# Altium footprint library Maxim Sensors.PcbLib: 239 footprints (part 15 of 15)
Each footprint in its own frame and in the unit in brackets; x right, y up, seen from the top. Pads: shape width x height; smd on the part's side, far side on the other; paste and mask are expansions set on the pad; w line width, h text height; cw(c..) or ccw(c..) is an arc to the next point about the centre after c.
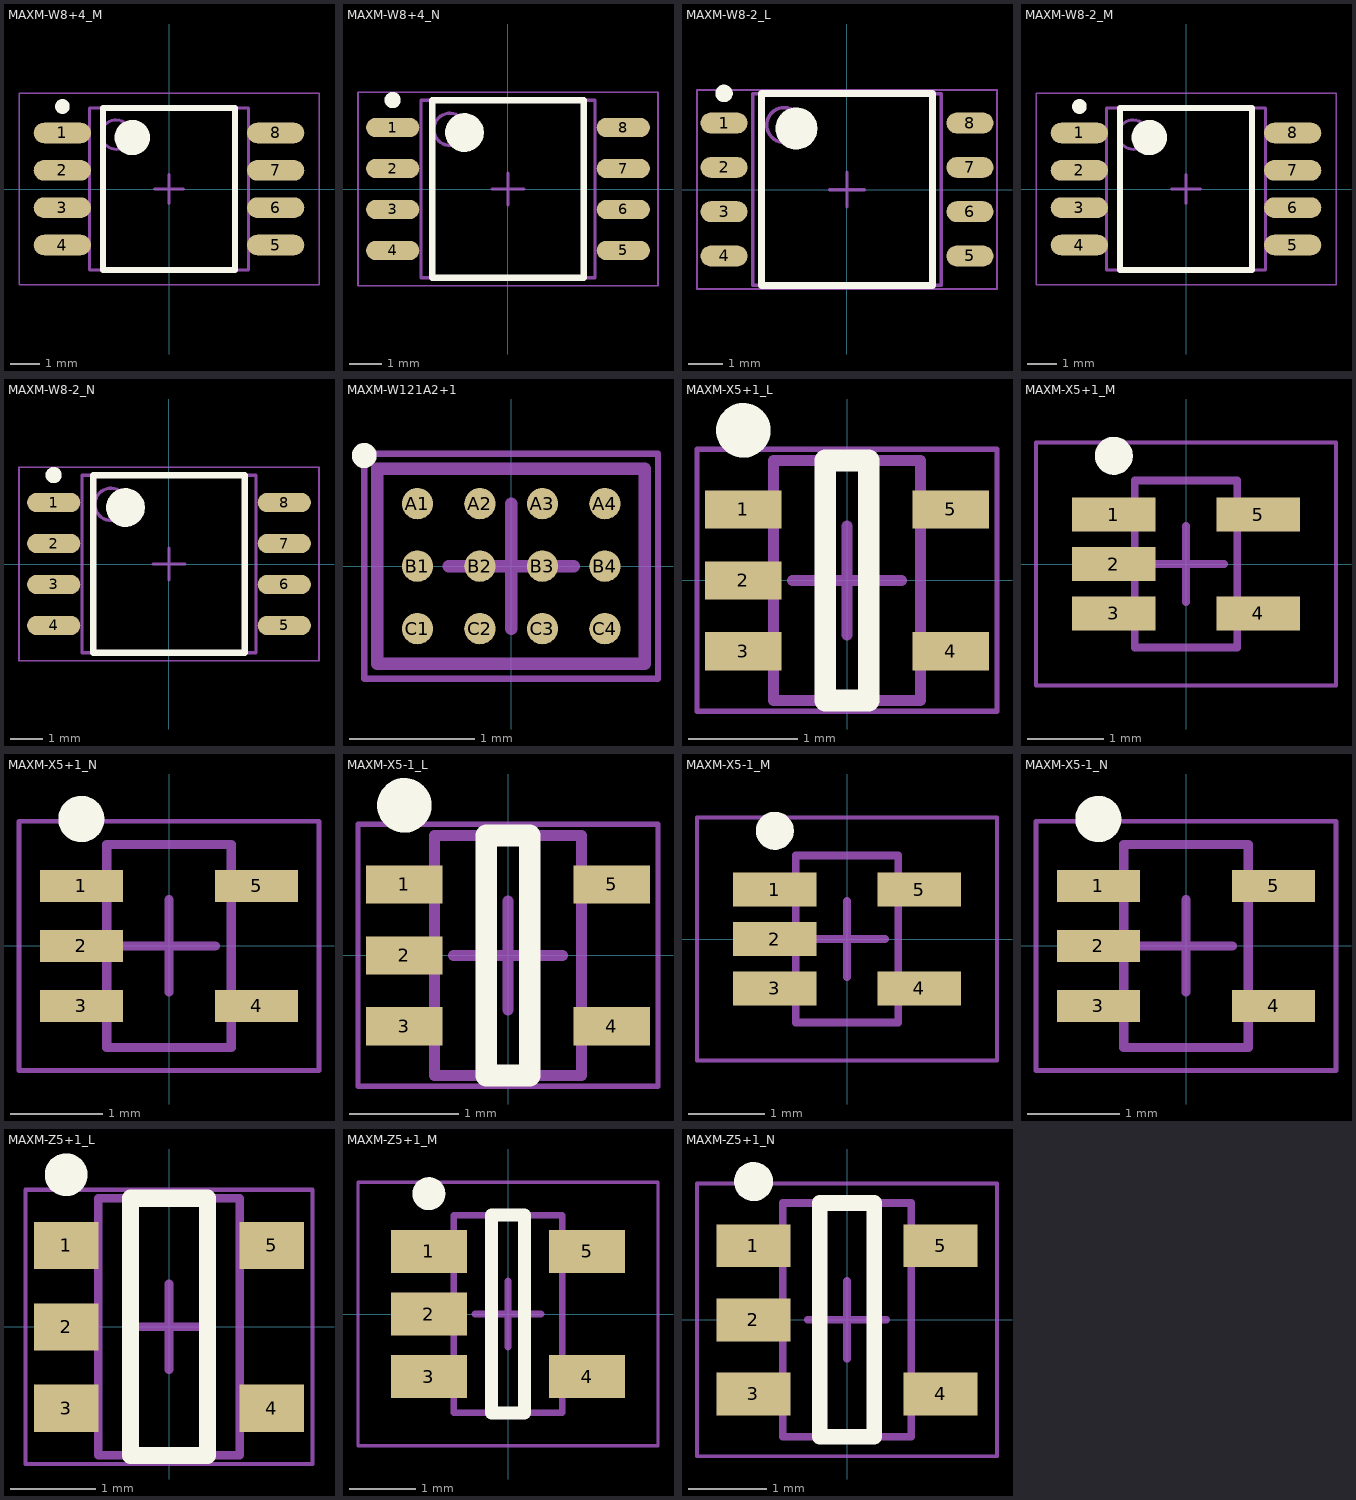
[diagram p14: the footprints below, top view; thin cyan lines are the x and y axes]

## MAXM-W8+4_M [mm] "SOIC, 8-Leads, Body 5.31x5.285mm, Pitch 1.27mm, IPC Low Density"
height 2.13
pads (8):
  oval 1.95x0.7 smd: 1(-3.625,1.905) 2(-3.625,0.635) 3(-3.625,-0.635) 4(-3.625,-1.905) 5(3.625,-1.905) 6(3.625,-0.635) 7(3.625,0.635) 8(3.625,1.905)
Top Overlay:
  circle w0.25: c-3.625,2.805 r0.125
  circle w0.6: c-1.25,1.75 r0.3
  lines w0.2: -2.25,-2.75 -2.25,2.75 2.25,2.75 2.25,-2.75 -2.25,-2.75
Mechanical 13:
  circle w0.1: c-1.8,1.85 r0.5
  lines w0.1: -2.7,-2.75 -2.7,2.75 2.7,2.75 2.7,-2.75 -2.7,-2.75
Mechanical 15:
  lines w0.05: -5.1,-3.25 -5.1,3.25 5.1,3.25 5.1,-3.25 -5.1,-3.25
  lines w0.1: -0.5,0 0.5,0 ; 0,-0.5 0,0.5
3D body: height 2.13, standoff 0.05, extent -2.7,-2.75 2.7,2.75

## MAXM-W8+4_N [mm] "SOIC, 8-Leads, Body 5.31x5.285mm, Pitch 1.27mm, IPC Medium Density"
height 2.13
pads (8):
  oval 1.65x0.6 smd: 1(-3.575,1.905) 2(-3.575,0.635) 3(-3.575,-0.635) 4(-3.575,-1.905) 5(3.575,-1.905) 6(3.575,-0.635) 7(3.575,0.635) 8(3.575,1.905)
Top Overlay:
  circle w0.25: c-3.575,2.755 r0.125
  circle w0.6: c-1.35,1.75 r0.3
  lines w0.2: -2.35,-2.75 -2.35,2.75 2.35,2.75 2.35,-2.75 -2.35,-2.75
Mechanical 13:
  circle w0.1: c-1.8,1.85 r0.5
  lines w0.1: -2.7,-2.75 -2.7,2.75 2.7,2.75 2.7,-2.75 -2.7,-2.75
Mechanical 15:
  lines w0.05: -4.65,-3 -4.65,3 4.65,3 4.65,-3 -4.65,-3
  lines w0.1: -0.5,0 0.5,0 ; 0,-0.5 0,0.5
3D body: height 2.13, standoff 0.05, extent -2.7,-2.75 2.7,2.75

## MAXM-W8-2_L [mm] "SOIC, 8-Leads, Body 5.31x5.285mm, Pitch 1.27mm, IPC High Density"
height 2.13
pads (8):
  oval 1.35x0.6 smd: 1(-3.525,1.905) 2(-3.525,0.635) 3(-3.525,-0.635) 4(-3.525,-1.905) 5(3.525,-1.905) 6(3.525,-0.635) 7(3.525,0.635) 8(3.525,1.905)
Top Overlay:
  circle w0.25: c-3.525,2.755 r0.125
  circle w0.6: c-1.45,1.75 r0.3
  lines w0.2: -2.45,-2.75 -2.45,2.75 2.45,2.75 2.45,-2.75 -2.45,-2.75
Mechanical 13:
  circle w0.1: c-1.8,1.85 r0.5
  lines w0.1: -2.7,-2.75 -2.7,2.75 2.7,2.75 2.7,-2.75 -2.7,-2.75
Mechanical 15:
  lines w0.05: -4.3,-2.85 -4.3,2.85 4.3,2.85 4.3,-2.85 -4.3,-2.85
  lines w0.1: -0.5,0 0.5,0 ; 0,-0.5 0,0.5
3D body: height 2.13, standoff 0.05, extent -2.7,-2.75 2.7,2.75

## MAXM-W8-2_M [mm] "SOIC, 8-Leads, Body 5.31x5.285mm, Pitch 1.27mm, IPC Low Density"
height 2.13
pads (8):
  oval 1.95x0.7 smd: 1(-3.625,1.905) 2(-3.625,0.635) 3(-3.625,-0.635) 4(-3.625,-1.905) 5(3.625,-1.905) 6(3.625,-0.635) 7(3.625,0.635) 8(3.625,1.905)
Top Overlay:
  circle w0.25: c-3.625,2.805 r0.125
  circle w0.6: c-1.25,1.75 r0.3
  lines w0.2: -2.25,-2.75 -2.25,2.75 2.25,2.75 2.25,-2.75 -2.25,-2.75
Mechanical 13:
  circle w0.1: c-1.8,1.85 r0.5
  lines w0.1: -2.7,-2.75 -2.7,2.75 2.7,2.75 2.7,-2.75 -2.7,-2.75
Mechanical 15:
  lines w0.05: -5.1,-3.25 -5.1,3.25 5.1,3.25 5.1,-3.25 -5.1,-3.25
  lines w0.1: -0.5,0 0.5,0 ; 0,-0.5 0,0.5
3D body: height 2.13, standoff 0.05, extent -2.7,-2.75 2.7,2.75

## MAXM-W8-2_N [mm] "SOIC, 8-Leads, Body 5.31x5.285mm, Pitch 1.27mm, IPC Medium Density"
height 2.13
pads (8):
  oval 1.65x0.6 smd: 1(-3.575,1.905) 2(-3.575,0.635) 3(-3.575,-0.635) 4(-3.575,-1.905) 5(3.575,-1.905) 6(3.575,-0.635) 7(3.575,0.635) 8(3.575,1.905)
Top Overlay:
  circle w0.25: c-3.575,2.755 r0.125
  circle w0.6: c-1.35,1.75 r0.3
  lines w0.2: -2.35,-2.75 -2.35,2.75 2.35,2.75 2.35,-2.75 -2.35,-2.75
Mechanical 13:
  circle w0.1: c-1.8,1.85 r0.5
  lines w0.1: -2.7,-2.75 -2.7,2.75 2.7,2.75 2.7,-2.75 -2.7,-2.75
Mechanical 15:
  lines w0.05: -4.65,-3 -4.65,3 4.65,3 4.65,-3 -4.65,-3
  lines w0.1: -0.5,0 0.5,0 ; 0,-0.5 0,0.5
3D body: height 2.13, standoff 0.05, extent -2.7,-2.75 2.7,2.75

## MAXM-W121A2+1 [mm] "BGA, 12-Balls, Body 2.135x1.555mm, Pitch 0.5mm"
height 0.69
pads (12):
  round 0.25 smd: A1(-0.75,0.5) A2(-0.25,0.5) A3(0.25,0.5) A4(0.75,0.5) B1(-0.75,0) B2(-0.25,0) B3(0.25,0) B4(0.75,0) C1(-0.75,-0.5) C2(-0.25,-0.5) C3(0.25,-0.5) C4(0.75,-0.5)
Top Overlay:
  circle w0.1: c-1.175,0.885 r0.05
Mechanical 13:
  lines w0.1: -1.07,-0.78 -1.07,0.78 1.07,0.78 1.07,-0.78 -1.07,-0.78
Mechanical 15:
  lines w0.05: -1.175,-0.9 -1.175,0.9 1.175,0.9 1.175,-0.9 -1.175,-0.9
  lines w0.1: -0.5,0 0.5,0 ; 0,-0.5 0,0.5
3D body: height 0.69, standoff 0.21, extent -1.07,-0.78 1.07,0.78

## MAXM-X5+1_L [mm] "SOT23, 5-Leads, Body 2x1.25mm, Pitch 0.65mm, IPC High Density"
height 1.1
pads (5):
  rect 0.7x0.35 smd: 1(-0.95,0.65) 2(-0.95,0) 3(-0.95,-0.65) 4(0.95,-0.65) 5(0.95,0.65)
Top Overlay:
  circle w0.25: c-0.95,1.375 r0.125
  lines w0.2: -0.2,-1.1 -0.2,1.1 0.2,1.1 0.2,-1.1 -0.2,-1.1
Mechanical 13:
  lines w0.1: -0.675,-1.1 0.675,-1.1 0.675,1.1 -0.675,1.1 -0.675,-1.1
Mechanical 15:
  lines w0.05: -1.375,-1.2 1.375,-1.2 1.375,1.2 -1.375,1.2 -1.375,-1.2
  lines w0.1: -0.5,0 0.5,0 ; 0,-0.5 0,0.5
3D body: height 1.1, standoff 0, extent -0.675,-1.1 0.675,1.1

## MAXM-X5+1_M [mm] "SOT23, 5-Leads, Body 2x1.25mm, Pitch 0.65mm, IPC Low Density"
height 1.1
pads (5):
  rect 1.1x0.45 smd: 1(-0.95,0.65) 2(-0.95,0) 3(-0.95,-0.65) 4(0.95,-0.65) 5(0.95,0.65)
Top Overlay:
  circle w0.25: c-0.95,1.425 r0.125
Mechanical 13:
  lines w0.1: -0.675,-1.1 -0.675,1.1 0.675,1.1 0.675,-1.1 -0.675,-1.1
Mechanical 15:
  lines w0.05: -1.975,-1.6 -1.975,1.6 1.975,1.6 1.975,-1.6 -1.975,-1.6
  lines w0.1: -0.5,0 0.5,0 ; 0,-0.5 0,0.5
3D body: height 1.1, standoff 0, extent -0.675,-1.1 0.675,1.1

## MAXM-X5+1_N [mm] "SOT23, 5-Leads, Body 2x1.25mm, Pitch 0.65mm, IPC Medium Density"
height 1.1
pads (5):
  rect 0.9x0.35 smd: 1(-0.95,0.65) 2(-0.95,0) 3(-0.95,-0.65) 4(0.95,-0.65) 5(0.95,0.65)
Top Overlay:
  circle w0.25: c-0.95,1.375 r0.125
Mechanical 13:
  lines w0.1: -0.675,-1.1 -0.675,1.1 0.675,1.1 0.675,-1.1 -0.675,-1.1
Mechanical 15:
  lines w0.05: -1.625,-1.35 -1.625,1.35 1.625,1.35 1.625,-1.35 -1.625,-1.35
  lines w0.1: -0.5,0 0.5,0 ; 0,-0.5 0,0.5
3D body: height 1.1, standoff 0, extent -0.675,-1.1 0.675,1.1

## MAXM-X5-1_L [mm] "SOT23, 5-Leads, Body 2x1.25mm, Pitch 0.65mm, IPC High Density"
height 1.1
pads (5):
  rect 0.7x0.35 smd: 1(-0.95,0.65) 2(-0.95,0) 3(-0.95,-0.65) 4(0.95,-0.65) 5(0.95,0.65)
Top Overlay:
  circle w0.25: c-0.95,1.375 r0.125
  lines w0.2: -0.2,-1.1 -0.2,1.1 0.2,1.1 0.2,-1.1 -0.2,-1.1
Mechanical 13:
  lines w0.1: -0.675,-1.1 0.675,-1.1 0.675,1.1 -0.675,1.1 -0.675,-1.1
Mechanical 15:
  lines w0.05: -1.375,-1.2 1.375,-1.2 1.375,1.2 -1.375,1.2 -1.375,-1.2
  lines w0.1: -0.5,0 0.5,0 ; 0,-0.5 0,0.5
3D body: height 1.1, standoff 0, extent -0.675,-1.1 0.675,1.1

## MAXM-X5-1_M [mm] "SOT23, 5-Leads, Body 2x1.25mm, Pitch 0.65mm, IPC Low Density"
height 1.1
pads (5):
  rect 1.1x0.45 smd: 1(-0.95,0.65) 2(-0.95,0) 3(-0.95,-0.65) 4(0.95,-0.65) 5(0.95,0.65)
Top Overlay:
  circle w0.25: c-0.95,1.425 r0.125
Mechanical 13:
  lines w0.1: -0.675,-1.1 -0.675,1.1 0.675,1.1 0.675,-1.1 -0.675,-1.1
Mechanical 15:
  lines w0.05: -1.975,-1.6 -1.975,1.6 1.975,1.6 1.975,-1.6 -1.975,-1.6
  lines w0.1: -0.5,0 0.5,0 ; 0,-0.5 0,0.5
3D body: height 1.1, standoff 0, extent -0.675,-1.1 0.675,1.1

## MAXM-X5-1_N [mm] "SOT23, 5-Leads, Body 2x1.25mm, Pitch 0.65mm, IPC Medium Density"
height 1.1
pads (5):
  rect 0.9x0.35 smd: 1(-0.95,0.65) 2(-0.95,0) 3(-0.95,-0.65) 4(0.95,-0.65) 5(0.95,0.65)
Top Overlay:
  circle w0.25: c-0.95,1.375 r0.125
Mechanical 13:
  lines w0.1: -0.675,-1.1 -0.675,1.1 0.675,1.1 0.675,-1.1 -0.675,-1.1
Mechanical 15:
  lines w0.05: -1.625,-1.35 -1.625,1.35 1.625,1.35 1.625,-1.35 -1.625,-1.35
  lines w0.1: -0.5,0 0.5,0 ; 0,-0.5 0,0.5
3D body: height 1.1, standoff 0, extent -0.675,-1.1 0.675,1.1

## MAXM-Z5+1_L [mm] "SOT23, 5-Leads, Body 2.9x1.6mm, Pitch 0.95mm, IPC High Density"
height 1.1
pads (5):
  rect 0.75x0.55 smd: 1(-1.2,0.95) 2(-1.2,0) 3(-1.2,-0.95) 4(1.2,-0.95) 5(1.2,0.95)
Top Overlay:
  circle w0.25: c-1.2,1.775 r0.125
  lines w0.2: -0.45,-1.5 -0.45,1.5 0.45,1.5 0.45,-1.5 -0.45,-1.5
Mechanical 13:
  lines w0.1: -0.825,-1.5 0.825,-1.5 0.825,1.5 -0.825,1.5 -0.825,-1.5
Mechanical 15:
  lines w0.05: -1.675,-1.6 1.675,-1.6 1.675,1.6 -1.675,1.6 -1.675,-1.6
  lines w0.1: -0.5,0 0.5,0 ; 0,-0.5 0,0.5
3D body: height 1.1, standoff 0, extent -0.825,-1.5 0.825,1.5

## MAXM-Z5+1_M [mm] "SOT23, 5-Leads, Body 2.9x1.6mm, Pitch 0.95mm, IPC Low Density"
height 1.1
pads (5):
  rect 1.15x0.65 smd: 1(-1.2,0.95) 2(-1.2,0) 3(-1.2,-0.95) 4(1.2,-0.95) 5(1.2,0.95)
Top Overlay:
  circle w0.25: c-1.2,1.825 r0.125
  lines w0.2: -0.25,-1.5 -0.25,1.5 0.25,1.5 0.25,-1.5 -0.25,-1.5
Mechanical 13:
  lines w0.1: -0.825,-1.5 0.825,-1.5 0.825,1.5 -0.825,1.5 -0.825,-1.5
Mechanical 15:
  lines w0.05: -2.275,-2 2.275,-2 2.275,2 -2.275,2 -2.275,-2
  lines w0.1: -0.5,0 0.5,0 ; 0,-0.5 0,0.5
3D body: height 1.1, standoff 0, extent -0.825,-1.5 0.825,1.5

## MAXM-Z5+1_N [mm] "SOT23, 5-Leads, Body 2.9x1.6mm, Pitch 0.95mm, IPC Medium Density"
height 1.1
pads (5):
  rect 0.95x0.55 smd: 1(-1.2,0.95) 2(-1.2,0) 3(-1.2,-0.95) 4(1.2,-0.95) 5(1.2,0.95)
Top Overlay:
  circle w0.25: c-1.2,1.775 r0.125
  lines w0.2: -0.35,-1.5 0.35,-1.5 0.35,1.5 -0.35,1.5 -0.35,-1.5
Mechanical 13:
  lines w0.1: -0.825,-1.5 -0.825,1.5 0.825,1.5 0.825,-1.5 -0.825,-1.5
Mechanical 15:
  lines w0.05: -1.925,-1.75 -1.925,1.75 1.925,1.75 1.925,-1.75 -1.925,-1.75
  lines w0.1: -0.5,0 0.5,0 ; 0,-0.5 0,0.5
3D body: height 1.1, standoff 0, extent -0.825,-1.5 0.825,1.5